# EAGLE library part SPI_FLASH-X25XX (library new-pca9306)
8pin SPI Flash series x25xx. Works with devices like W25X32 and BR25L32
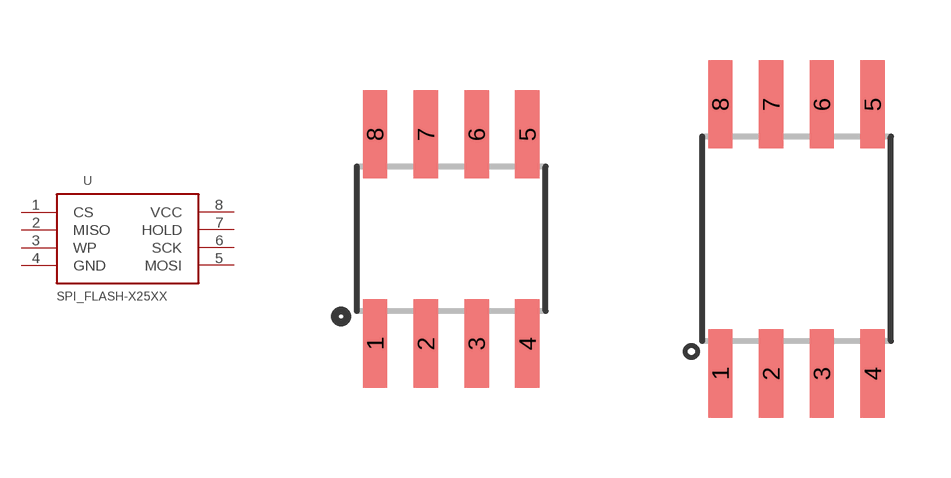
[diagram p63: symbol with the pads of SO08; footprints SO08, SO08-EIAJ]

Designator prefix -

## SPI_FLASH-X25XXSMD  [SO08]
1  CS
2  MISO
3  WP
4  GND
5  MOSI
6  SCK
7  HOLD
8  VCC

## SPI_FLASH-X25XXSMD1 (PROD_ID: IC-09109)  [SO08-EIAJ]
Pads as for SO08

## Footprint SO08 (pad centres in mm)
Small Outline Package Fits JEDEC packages (narrow SOIC-8)
smd 0.61 x 2.21: 1 -1.905,-2.616; 2 -0.635,-2.616; 3 0.635,-2.616; 4 1.905,-2.616; 5 1.905,2.616; 6 0.635,2.616; 7 -0.635,2.616; 8 -1.905,2.616

## Footprint SO08-EIAJ (pad centres in mm)
Fits EIAJ packages (wide version of the SOIC-8).
smd 0.61 x 2.21: 1 -1.905,-3.378; 2 -0.635,-3.378; 3 0.635,-3.378; 4 1.905,-3.378; 5 1.905,3.353; 6 0.635,3.353; 7 -0.635,3.353; 8 -1.905,3.353